# Altium footprint library USB_type-c_LCSC.PcbLib: 1 footprints
Each footprint in its own frame and in the unit in brackets; x right, y up, seen from the top. Pads: shape width x height; smd on the part's side, far side on the other; paste and mask are expansions set on the pad; w line width, h text height; cw(c..) or ccw(c..) is an arc to the next point about the centre after c.
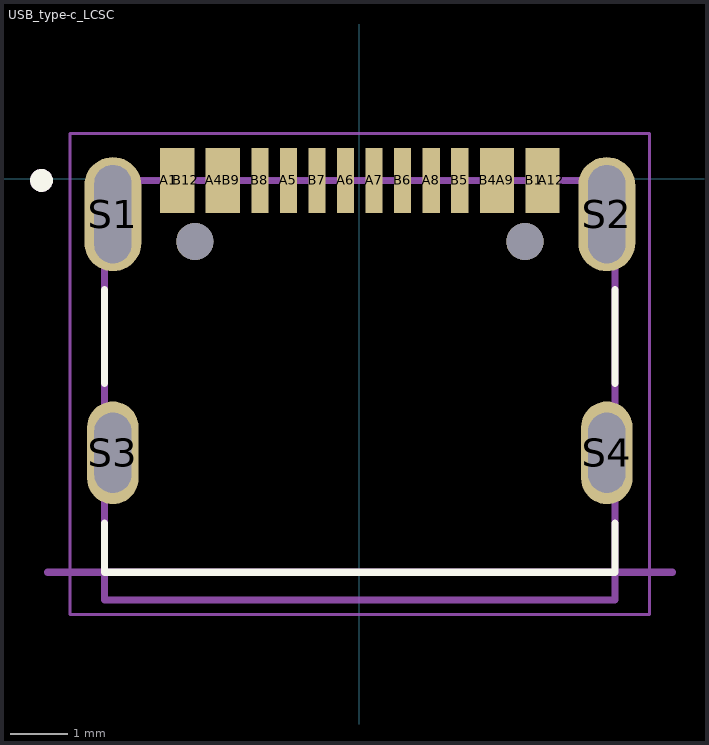
[diagram p0: the footprint, top view; thin cyan lines are the x and y axes]

## USB_type-c_LCSC [mm]
pads (22):
  rect 0.3x1.14 smd mask+0: A1(-3.337,-0.025) A4(-2.537,-0.025) A5(-1.237,-0.025) A6(-0.237,-0.025) A7(0.263,-0.025) A8(1.263,-0.025) A9(2.563,-0.025) A12(3.363,-0.025) B1(3.063,-0.025) B4(2.263,-0.025) B5(1.763,-0.025) B6(0.763,-0.025) B7(-0.737,-0.025) B8(-1.737,-0.025) B9(-2.237,-0.025) B12(-3.037,-0.025)
  oval 1x2 hole 0.65 slot 1.72 at 90 deg: S1(-4.312,-0.615) S2(4.338,-0.615)
  oval 0.9x1.8 hole 0.65 slot 1.4 at 90 deg: S3(-4.312,-4.795) S4(4.338,-4.795)
  round 0.65 hole 0.65 unplated: ""(-2.877,-1.095) ""(2.903,-1.095)
Top Overlay:
  circle w0.2: c-5.562,-0.025 r0.1
  lines w0.127: -4.457,-6.025 -4.457,-6.885 4.483,-6.885 4.483,-6.025 ; -4.457,-3.575 -4.457,-1.935 ; 4.483,-3.575 4.483,-1.935
Mechanical 1:
  lines w0: 4.013,-0.118 cw(c4.348,-0.1) 4.33,0.234 cw(c4.348,-0.08) 4.663,-0.064 ; 4.013,-0.115 4.013,-1.165 ccw(c4.323,-1.155) 4.334,-1.465 ; 4.331,-1.465 ccw(c4.348,-1.15) 4.663,-1.167 ; 4.663,-1.165 4.663,-0.065
Mechanical 13:
  circle w0.2: c-5.562,-0.025 r0.1
  lines w0.127: -5.457,-6.885 5.483,-6.885 ; -4.457,-7.375 -4.457,-0.025 4.483,-0.025 4.483,-7.375 -4.457,-7.375
  text "PCB Edge" at -2.057,-6.625 h0.7
Mechanical 15:
  lines w0.05: -5.062,-7.625 -5.062,0.795 5.088,0.795 5.088,-7.625 -5.062,-7.625
3D body "step_temp.STEP": height 3.26, standoff -1, extent -4.521,-7.334 4.419,0.416